# Altium schematic symbol library Schlib1.SchLib: 7 symbols
Pins are listed as number, name and electrical type; pins without a type are passive.

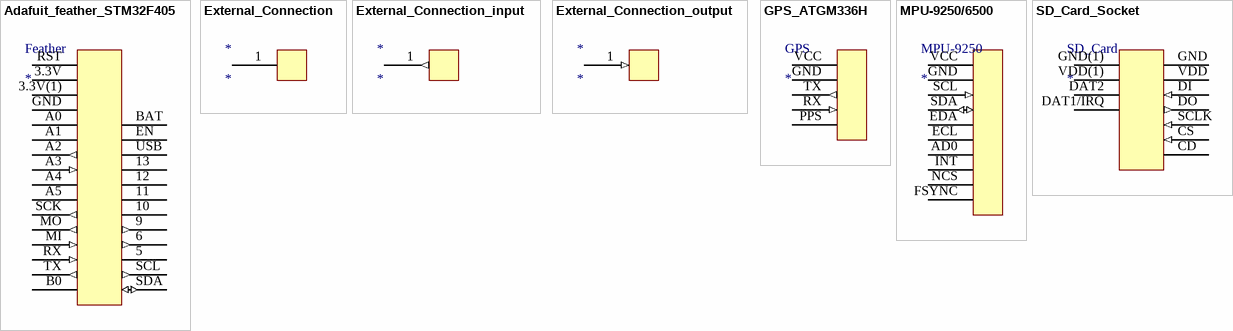
[diagram p0: symbols Adafuit_feather_STM32F405 to SD_Card_Socket]

## Adafuit_feather_STM32F405
designator Feather
footprint Adafuit_feather_STM32F405
pins: 3.3V (power), 3.3V(1), 5, 6 (out), 9 (out), 10, 11, 12, 13, A0, A1, A2 (out), A3 (in), A4, A5, B0, BAT (power), EN, GND (power), MI (in), MO (out), RST, RX (in), SCK (out), SCL (out), SDA (io), TX (out), USB

## External_Connection
designator *
footprint connector
pins: 1 (power)

## External_Connection_input
designator *
footprint connector
pins: 1 (out)

## External_Connection_output
designator *
footprint connector
pins: 1 (in)

## GPS_ATGM336H
designator GPS
footprint GPS
pins: GND (power), PPS, RX (in), TX (out), VCC (power)

## MPU-9250/6500
designator MPU-9250
footprint MPU-9250/6500
pins: AD0 (power), ECL, EDA, FSYNC (power), GND (power), INT, NCS, SCL (in), SDA (io), VCC (power)

## SD_Card_Socket
designator SD_Card
footprint SD_Card_Socket
pins: CD, CS (in), DAT1/IRQ, DAT2, DI (in), DO (out), GND (power), GND(1), SCLK (in), VDD (power), VDD(1)